# Altium schematic symbol library Base_borne_MEP_1.SCHLIB: 7 symbols
Pins are listed as number, name and electrical type; pins without a type are passive.

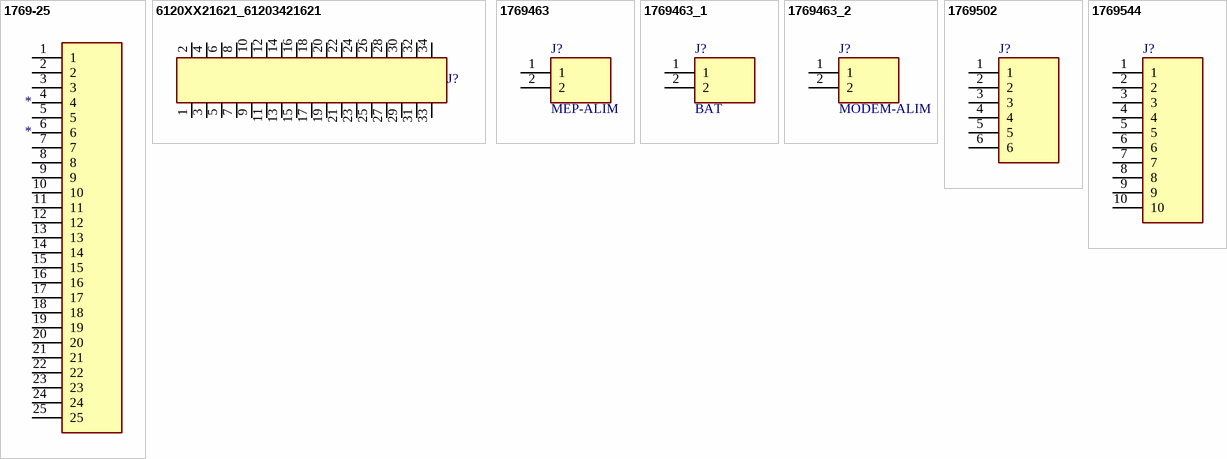
[diagram p0: symbols 1769-25 to 1769544]

## 1769-25
designator *
footprint 1769-25
pins: 1, 2, 3, 4, 5, 6, 7, 8, 9, 10, 11, 12, 13, 14, 15, 16, 17, 18, 19, 20, 21, 22, 23, 24, 25

## 6120XX21621_61203421621
designator J?  (value not drawn)
34 pins, straight, gold plating; MF: Wurth Electronics; SnapEDA_Link: https://www.snapeda.com/parts/61203421621/Wurth+Electronics/view-part/?ref=snap; Package: None; Value: *; MP: 61203421621; Check_prices: https://www.snapeda.com/parts/61203421621/Wurth+Electronics/view-part/?ref=eda
footprint 61203421621
pins: 1, 2, 3, 4, 5, 6, 7, 8, 9, 10, 11, 12, 13, 14, 15, 16, 17, 18, 19, 20, 21, 22, 23, 24, 25, 26, 27, 28, 29, 30, 31, 32, 33, 34

## 1769463
designator J?, comment MEP-ALIM
Connector; Manufacturer_Name: Phoenix Contact; Manufacturer_Part_Number: 1769463; Datasheet Link: https://www.phoenixcontact.com/en-us/products/pcb-header-smstb-25-2-g-508-1769463?type=pdf; Height: 14.95mm
footprint 1769463
pins: 1, 2

## 1769463_1
designator J?, comment BAT
Connector; Manufacturer_Name: Phoenix Contact; Manufacturer_Part_Number: 1769463; Datasheet Link: https://www.phoenixcontact.com/en-us/products/pcb-header-smstb-25-2-g-508-1769463?type=pdf; Height: 14.95mm
footprint 1769463
pins: 1, 2

## 1769463_2
designator J?, comment MODEM-ALIM
Connector; Manufacturer_Name: Phoenix Contact; Manufacturer_Part_Number: 1769463; Datasheet Link: https://www.phoenixcontact.com/en-us/products/pcb-header-smstb-25-2-g-508-1769463?type=pdf; Height: 14.95mm
footprint 1769463
pins: 1, 2

## 1769502
designator J?  (value not drawn)
Connector; Manufacturer_Name: Phoenix Contact; Datasheet Link: https://www.phoenixcontact.com/en-us/products/pcb-header-smstb-25-6-g-508-1769502?type=pdf; Height: 14.95mm; Manufacturer_Part_Number: 1769502; Mouser Part Number: 651-1769502; Mouser Price/Stock: https://www.mouser.co.uk/ProductDetail/Phoenix-Contact/1769502?qs=uJX40y%252BSWqhWXzYacBQ8LA%3D%3D
footprint 1769502
pins: 1, 2, 3, 4, 5, 6

## 1769544
designator J?  (value not drawn)
Connector; Manufacturer_Name: Phoenix Contact; Datasheet Link: https://www.phoenixcontact.com/en-us/products/pcb-header-smstb-2510-g-508-1769544?type=pdf; Height: 14.95mm; Manufacturer_Part_Number: 1769544; Mouser Part Number: 651-1769544; Mouser Price/Stock: https://www.mouser.co.uk/ProductDetail/Phoenix-Contact/1769544?qs=Ul7CXFMnlWULFMNjwB5rhQ%3D%3D
footprint 1769544
pins: 1, 2, 3, 4, 5, 6, 7, 8, 9, 10